# EAGLE library part ISO1050DUB* (library IC_Interface)
Isolated CAN Transceiver SOP-8 Datasheet <https://www.ti.com/lit/ds/symlink/iso1050.pdf?HQS=dis-dk-null-digikeymode-dsf-pf-null-wwe&ts=1611898260031>
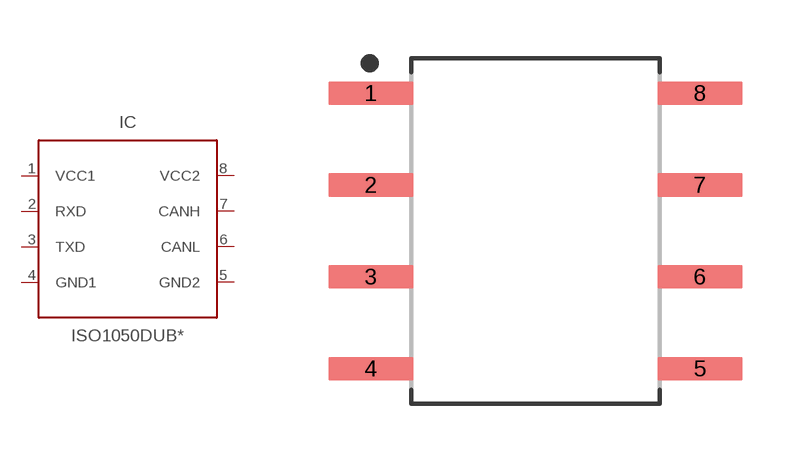
[diagram p15: symbol with the pads of SOP254P1040X485-8; footprint SOP254P1040X485-8]

Designator prefix IC

## ISO1050DUB (CATEGORY: IC_Interface; DESCRIPTION: Isolated CAN Transceiver; MANUFACTURER: TEXAS INSTRUMENTS; MPN: ISO1050DUB; OPERATING_TEMP: -55°C to 105°C; PART_STATUS: Active; ROHS_COMPLIANT: COMPLIANT; SERIES: ISO1050; SUB-CATEGORY: Transceiver; TYPE: CAN; VALUE: ISO1050), ISO1050DUBR (CATEGORY: IC_Interface; DESCRIPTION: Isolated CAN Transceiver; MANUFACTURER: TEXAS INSTRUMENTS; MPN: ISO1050DUBR; OPERATING_TEMP: -55°C to 105°C; PART_STATUS: Active; ROHS_COMPLIANT: COMPLIANT; SERIES: ISO1050; SUB-CATEGORY: Transceiver; TYPE: CAN; VALUE: ISO1050)  [SOP254P1040X485-8]
1  VCC1  pwr
2  RXD  out
3  TXD  in
4  GND1  pwr
5  GND2  pwr
6  CANL
7  CANH
8  VCC2  pwr

## Footprint SOP254P1040X485-8 (pad centres in mm)
8-SOP, 2.54 mm pitch, 10.40 mm span, 9.29 X 6.62 X 4.85 mm body 8-pin SOP package with 2.54 mm pitch, 10.40 mm span with body size 9.29 X 6.62 X 4.85 mm
smd 2.35 x 0.65: 1 -4.55,3.81; 2 -4.55,1.27; 3 -4.55,-1.27; 4 -4.55,-3.81; 5 4.55,-3.81; 6 4.55,-1.27; 7 4.55,1.27; 8 4.55,3.81